# Altium schematic symbol library pcb-mount DC Jacks.SchLib: 1 symbol
Pins are listed as number, name and electrical type; pins without a type are passive.

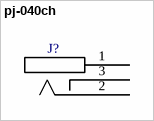
[diagram p0: symbol pj-040ch]

## pj-040ch
designator J?, comment DC Jack  (value not drawn)
pj-040ch; Digi-Key Part No.: CP-040CH-ND; Manufacturer Part No.: PJ-040CH
footprint pj-040ch (PCB-mount NC DC Jack)
pins: 1, 2, 3